# Altium footprint library SOT23_5-SPE-LM27313.PcbLib: 1 footprints
Each footprint in its own frame and in the unit in brackets; x right, y up, seen from the top. Pads: shape width x height; smd on the part's side, far side on the other; paste and mask are expansions set on the pad; w line width, h text height; cw(c..) or ccw(c..) is an arc to the next point about the centre after c.
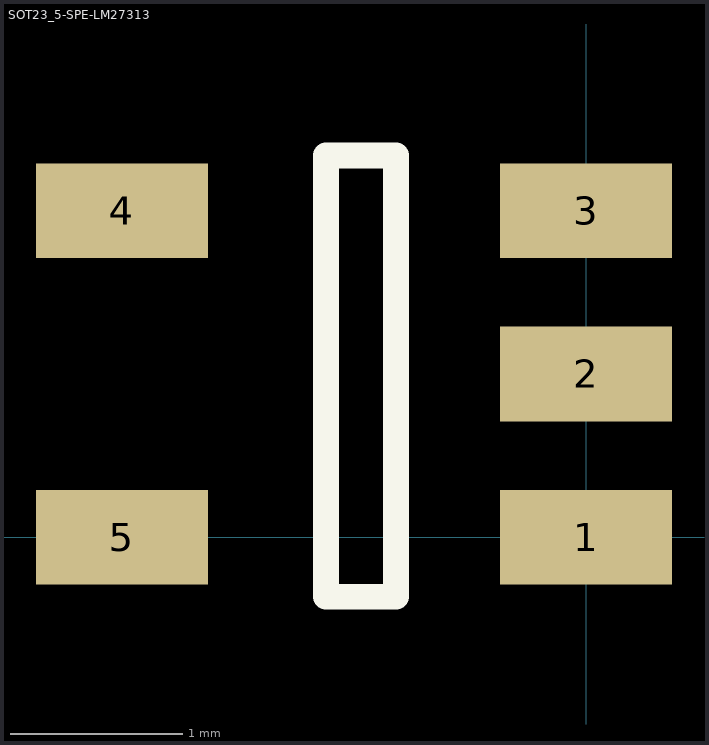
[diagram p0: the footprint, top view; thin cyan lines are the x and y axes]

## SOT23_5-SPE-LM27313 [mm]
pads (5):
  rect 1x0.55 smd: 1(0,0) 2(0,0.95) 3(0,1.9) 4(-2.7,1.9) 5(-2.7,0)
Top Overlay:
  lines w0.15: -1.513,-0.345 -1.107,-0.345 -1.107,2.221 -1.513,2.221 -1.513,-0.345
3D body: height 1.43, standoff -0.02, extent -2.721,-0.51 0.079,2.39